# EAGLE library part 24SHC-B-1A (library shc_con)
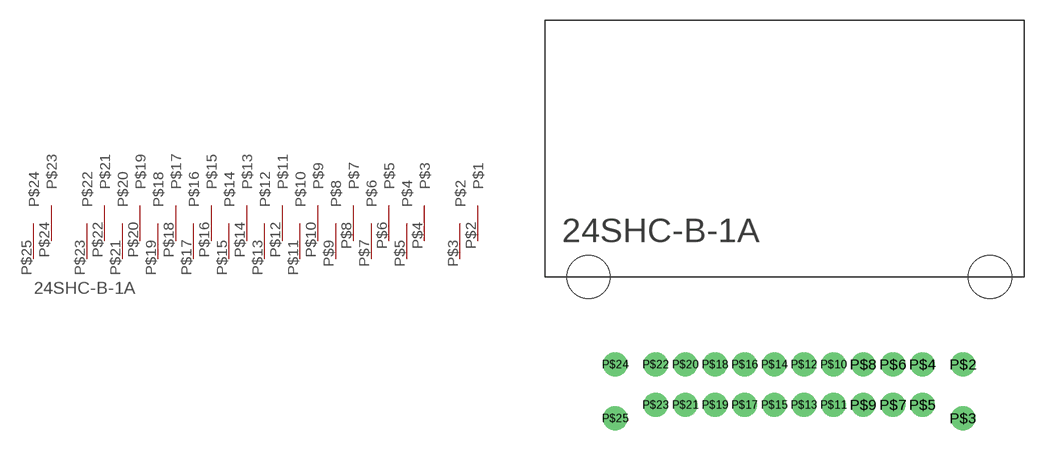
[diagram p0: symbol with the pads of 24SHC-B-1A; footprint 24SHC-B-1A]

Designator prefix -

## 24SHC-B-1A  [24SHC-B-1A]
P$2  P$1
P$3  P$2
P$4  P$3
P$5  P$4
P$6  P$5
P$7  P$6
P$8  P$7
P$9  P$8
P$10  P$9
P$11  P$10
P$12  P$11
P$13  P$12
P$14  P$13
P$15  P$14
P$16  P$15
P$17  P$16
P$18  P$17
P$19  P$18
P$20  P$19
P$21  P$20
P$22  P$21
P$23  P$22
P$24  P$23
P$25  P$24

## Footprint 24SHC-B-1A (pad centres in mm)
drill 1.2: P$2 -2,-6.5; P$3 -2,-10.5; P$4 -5,-6.5; P$5 -5,-9.5; P$6 -7.2,-6.5; P$7 -7.2,-9.5; P$8 -9.4,-6.5; P$9 -9.4,-9.5; P$10 -11.6,-6.5; P$11 -11.6,-9.5; P$12 -13.8,-6.5; P$13 -13.8,-9.5; P$14 -16,-6.5; P$15 -16,-9.5; P$16 -18.2,-6.5; P$17 -18.2,-9.5; P$18 -20.4,-6.5; P$19 -20.4,-9.5; P$20 -22.6,-6.5; P$21 -22.6,-9.5; P$22 -24.8,-6.5; P$23 -24.8,-9.5; P$24 -27.8,-6.5; P$25 -27.8,-10.5
hole 3.2 at 0,0
hole 3.2 at -29.8,0